# Altium schematic symbol library C3216X7R1H106K160AC.SchLib: 2 symbols
Pins are listed as number, name and electrical type; pins without a type are passive.

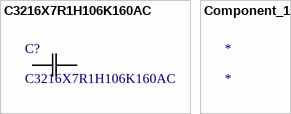
[diagram p0: symbols C3216X7R1H106K160AC to Component_1]

## C3216X7R1H106K160AC
designator C?
No Description Available; Manufacturer_Name: TDK; Copyright: Copyright (C) 2025 Ultra Librarian. All rights reserved.; Manufacturer_Part_Number: C3216X7R1H106K160AC
footprint CAP_3216_TDK
pins: 1, 2

## Component_1
designator *